# Altium schematic symbol library Schlib1.SchLib: 7 symbols
Pins are listed as number, name and electrical type; pins without a type are passive.

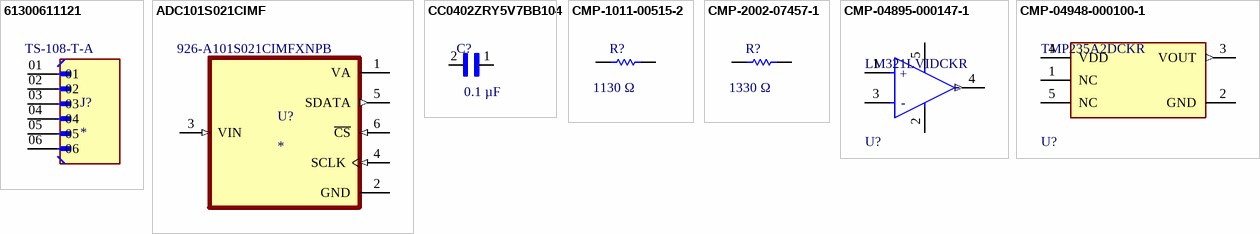
[diagram p0: symbols 61300611121 to CMP-04948-000100-1]

## 61300611121
designator J?  Supplier Part Number 1: TS-108-T-A
Board Connector, 48 Contact(s), 1 Row(s), Male, Straight, 0.1 inch Pitch, Solder Terminal, Black Insulator; Manufacturer: Samtec; Manufacturer Series: TS; MF: Wurth Electronics; MP: 61300611121; Number of Contacts: 48; Option: General Purpose; Filter Feature: No; Mating Information: MULTIPLE MATING PARTS AVAILABLE; Number of Rows Loaded: 1; Contact Style: RND PIN-SKT; PCB Contact Pattern: RECTANGULAR; Body Length: 0.8inch; Plating Thickness: 200uin; Reference Standard: UL; Reliability: COMMERCIAL; SnapEDA_Link: https://www.snapeda.com/parts/61300611121/Wurth+Electronics+Inc./view-part/?ref=snap; Package: None; Value: *; Check_prices: https://www.snapeda.com/parts/61300611121/Wurth+Electronics+Inc./view-part/?ref=eda; Supplier 1: Arrow Electronics; Manufacturer Part Number: TS-108-T-A; RoHS: Yes; Category: Connectors; Stock 1: 10; Pricing 1: 1=1.5, 50=1.17, 100=0.94, 500=0.8, 1000=0.64, 2000=0.58, 5000=0.47 (USD); Mounting Technology: Board; Contact Finish - Mating: TIN OVER COPPER (100); Contact Finish - Termination: TIN OVER COPPER (100); Contact Material: Brass; Insulation Color: Black; Insulation Material: Glass; Min Operating Temperature: -55°C; Max Operating Temperature: 105°C; JESD-609 Code: e3; Mounting Style: STRAIGHT; Termination: Solder; Connector Type: BOARD CONNECTOR; Contact Gender: Male; Mixed Contacts: No; Contact Pattern: RECTANGULAR; Number Of Connectors: 1; Number Of PCB Rows: 1; Terminal Pitch: 2.54mm; Body Breadth: 0.1inch; Mating Contact Pitch: 0.1inch; Terminal Length: 0.156inch; RoHS Compliant: Yes; Reach SVHC Compliant: No; DIN Conformance: No; IEC Conformance: No; MIL Conformance: No; ComponentLink1URL: https://datasheet.ciiva.com:443/pdfs/VipMasterIC/IC/SAMI/SAMI-S-A0001504555/SAMI-S-A0001504555-1.pdf?src-supplier=IHS+Markit; ComponentLink1Description: https://datasheet.ciiva.com:443/pdfs/VipMasterIC/IC/SAMI/SAMI-S-A0001504555/SAMI-S-A0001504555-1.pdf?src-supplier=IHS+Markit; ComponentLink2URL: https://datasheet.ciiva.com/410/tx-1xx-x-x-mkt1-410208.pdf?src-supplier=Digi-Key; ComponentLink2Description: https://datasheet.ciiva.com/410/tx-1xx-x-x-mkt1-410208.pdf?src-supplier=Digi-Key
footprint CON-WURTH_61300611121
pins: 01, 02, 03, 04, 05, 06

## ADC101S021CIMF
designator U?  Supplier Part Number 1: 926-A101S021CIMFXNPB
ADC, Successive Approximation, 10-Bit, 1 Func, 1 Channel, Serial Access, CMOS, PDSO6; Manufacturer: TI National Semiconductor; MF: {'manufacturer': u'Texas Instruments'}; MP: ADC101S021CIMFX/NOPB; Package Body Material: Plastic; Max Input Voltage (AC): 5.25V; Min Input Voltage (AC): 0V; Linearity Error-Max (EL): 0.0684%; Number of Analog In Channels: 1; Number of Bits: 10; Output Bit Code: BINARY; Package Equivalence Code: TSOP6,.11,37; Power Supplies: 3/5V; Sample Rate (Hz): 200kHz; Sample-and-Hold/Track-and-Hold: TRACK; Nominal Supply Voltage: 3V; Qualification Status: Not Qualified; Package: None; Price: None; Value: *; Availability: Unavailable; Supplier 1: Mouser; Manufacturer Part Number: ADC101S021CIMFX/NOPB; RoHS: Yes; Category: Analog to Digital Converters (ADCs); Stock 1: 2943; Pricing 1: 1=1.63, 10=1.39, 50=1.39, 100=1.18, 1000=0.805, 10000=0.694 (USD); Case/Package: LSSOP; Pins: 6; Package Shape: Rectangular; Terminal Finish: Tin; Min Operating Temperature: -40°C; Max Operating Temperature: 85°C; JESD-609 Code: e3; Output Format: Serial; Converter Type: SUCCESSIVE APPROXIMATION; JESD-30 Code: R-PDSO-G6; Moisture Sensitivity Level: 1; Channels: 1; Package Style: SMALL OUTLINE, LOW PROFILE, SHRINK PITCHMeter; Peak Reflow Temperature (Cel): 260°C; Surface Mount: Yes; Technology: CMOS; Terminal Form: Gull Wing; Terminal Position: DUAL; Length: 2.9mm; Width: 1.6mm; Height - Seated (Max): 1.45mm; Terminal Pitch: 0.95mm; Temperature Grade: INDUSTRIAL; Reach SVHC Compliant: Yes; RoHS Compliant: Yes; ComponentLink1URL: https://www.ti.com:443/lit/ds/symlink/adc101s021.pdf?src-supplier=IHS+Markit; ComponentLink1Description: https://www.ti.com:443/lit/ds/symlink/adc101s021.pdf?src-supplier=IHS+Markit; ComponentLink2URL: https://datasheet.ciiva.com/14259/adc101s021-14259515.pdf?src-supplier=Avnet; ComponentLink2Description: https://datasheet.ciiva.com/14259/adc101s021-14259515.pdf?src-supplier=Avnet
footprint ADC-SOT95P280X145-6N
pins: 1 VA (power), 2 GND (power), 3 VIN (in), 4 SCLK (in), 5 SDATA (out), 6 ~{CS} (in)

## CC0402ZRY5V7BB104
designator C?  value 0.1 µF  (hidden comment: *)
0.1ÂµF -20%, +80% 16V Ceramic Capacitor Y5V (F) 0402 (1005 Metric); MP: CC0402ZRY5V7BB104; MF: Yageo; Digi-Key_Part_Number: 311-1047-1-ND; Package: 0402 Yageo; SnapEDA_Link: https://www.snapeda.com/parts/CC0402ZRY5V7BB104/Yageo/view-part/1821018/?ref=snap
footprint CAPC1005X55N
pins: 1, 2

## CMP-1011-00515-2
designator R?  value 1130 Ω  (hidden comment: *)
Manufacturer: Yageo; Part Number: RC0402FR-071K13L
footprint RESC1005X40X25ML05T10 (Chip Resistor, 2-Leads, Body 1.00x0.50mm, IPC Low Density)
footprint RESC1005X40X25LL05T10 (Chip Resistor, 2-Leads, Body 1.00x0.50mm, IPC High Density)
footprint RESC1005X40X25NL05T10 (Chip Resistor, 2-Leads, Body 1.00x0.50mm, IPC Medium Density)
pins: 1, 2
1 alternate drawing of the same symbol

## CMP-2002-07457-1
designator R?  value 1330 Ω  (hidden comment: *)
Manufacturer: Yageo; Part Number: RC0402FR-071K33L
footprint RESC1005X40X25ML05T10 (Chip Resistor, 2-Leads, Body 1.00x0.50mm, IPC Low Density)
footprint RESC1005X40X25LL05T10 (Chip Resistor, 2-Leads, Body 1.00x0.50mm, IPC High Density)
footprint RESC1005X40X25NL05T10 (Chip Resistor, 2-Leads, Body 1.00x0.50mm, IPC Medium Density)
pins: 1, 2
1 alternate drawing of the same symbol

## CMP-04895-000147-1
designator U?, comment LM321LVIDCKR
IC OPAMP GP 1 CIRCUIT SC70-5; RoHS Compliant: Yes
footprint FP-DCK0005A-IPC_A
footprint FP-DCK0005A-IPC_C
footprint FP-DCK0005A-MFG
footprint FP-DCK0005A-IPC_B
pins: 1 IN+ (hiz), 2 V- (power), 3 IN- (hiz), 4 OUT (out), 5 V+ (power)
text: +; -

## CMP-04948-000100-1
designator U?, comment TMP235A2DCKR
SENSOR ANALOG -40C-150C SC70-5; Output Type: Analog Voltage; RoHS Compliant: Yes; Mount: Surface Mount; Max Operating Temperature: 150°C; Packaging: Tape and Reel; Min Operating Temperature: -40°C; Interface: Analog
footprint TMP-FP-DCK0005A-IPC_B
footprint TMP-FP-DCK0005A-IPC_A
footprint TMP-FP-DCK0005A-IPC_C
footprint TMP-FP-DCK0005A-MFG
pins: 1 NC, 2 GND (power), 3 VOUT (out), 4 VDD (power), 5 NC